# Altium schematic symbol library My Schematic Library.SchLib: 45 symbols
Pins are listed as number, name and electrical type; pins without a type are passive.

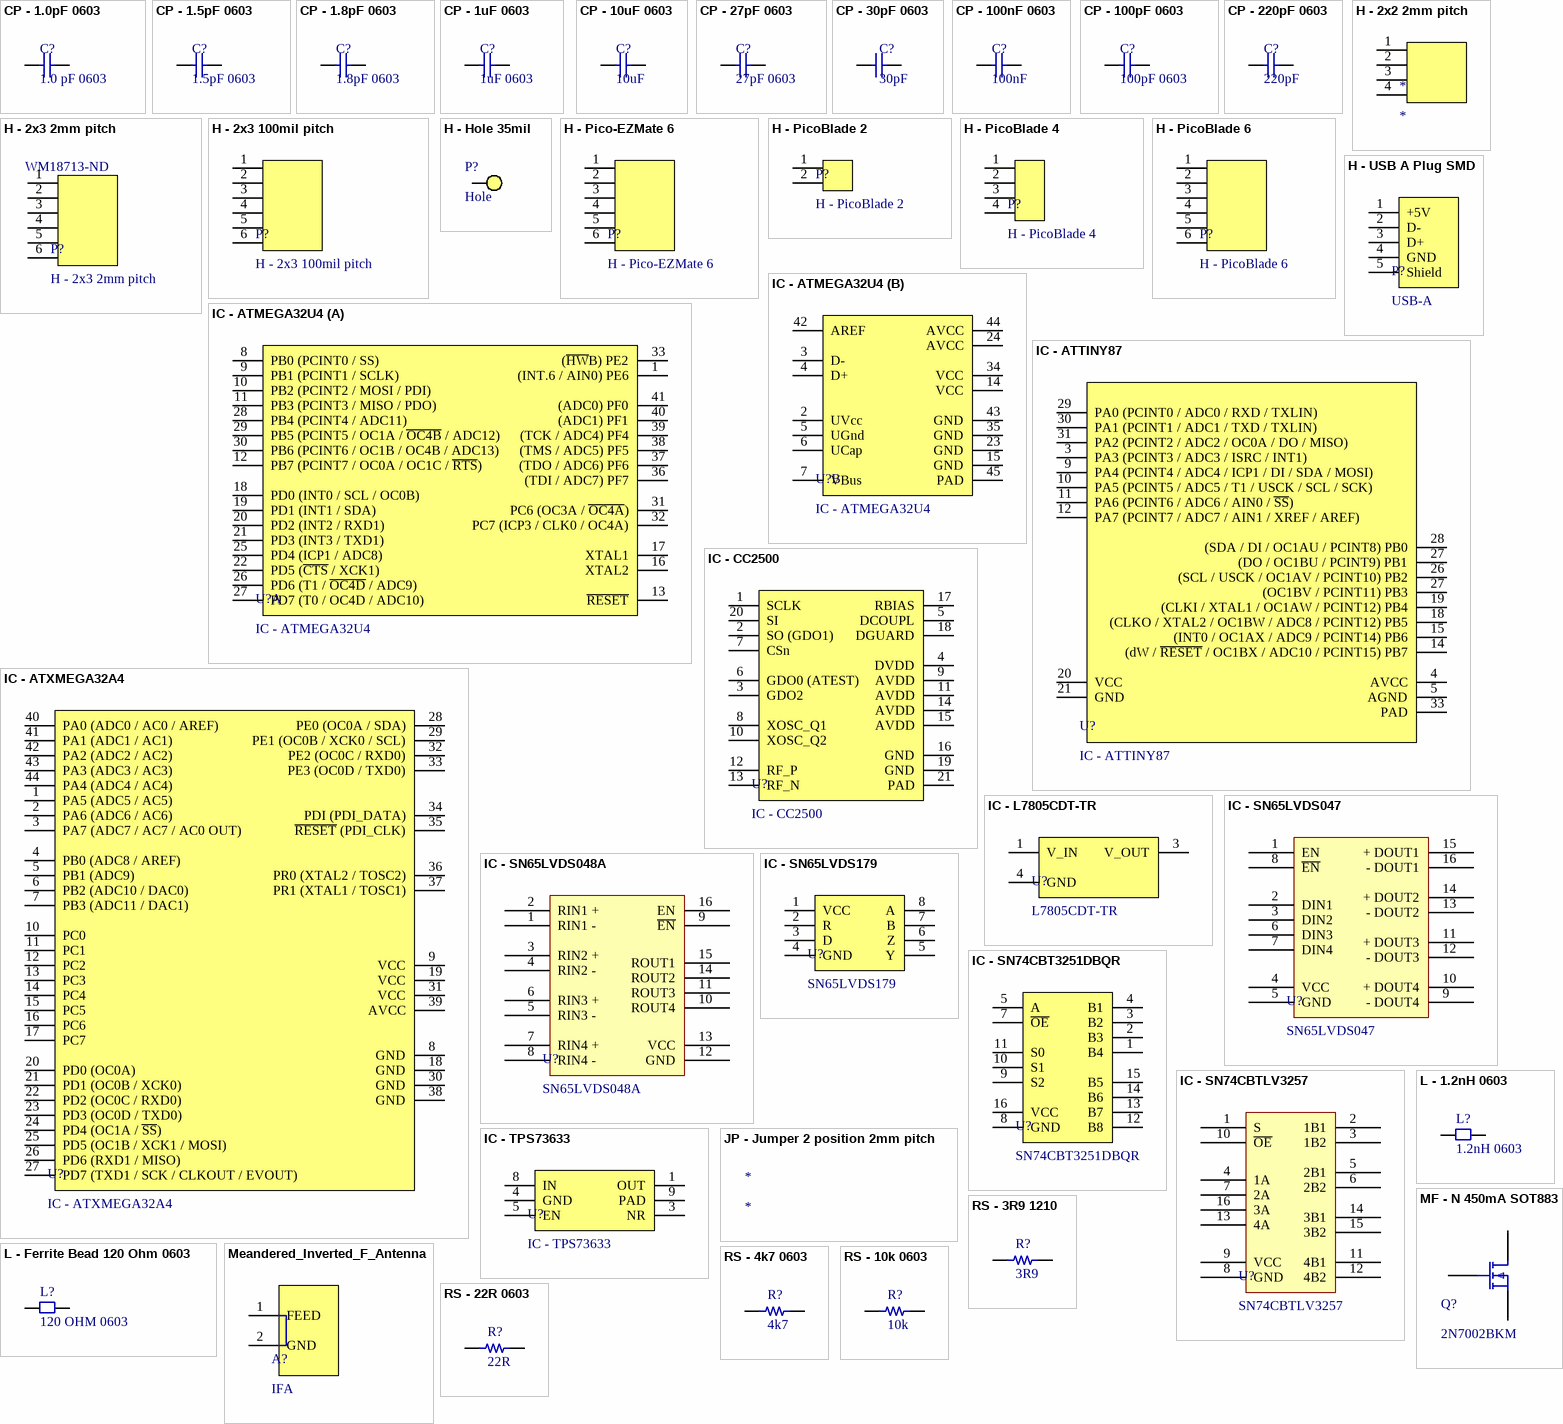
[diagram p0: symbols CP - 1.0pF 0603 to RS - 22R 0603]

## CP - 1.0pF 0603
designator C?, comment 1.0 pF 0603
CAP CER 1.0PF 50V C0G 0603; Manufacturer: TDK Corporation; Manufacturer Part Number: C1608C0G1H010C; Tolerance: ±0.25pF; Temperature Coefficient: C0G, NP0; Supplier 1: Digi-Key; RoHS: RoHS Compliant; Category: Capacitors; Stock 1: 89185; Pricing 1: 1=0.09, 10=0.058, 100=0.0207, 250=0.01496, 500=0.01104, 1000=0.00748 (USD); Capacitance: 1.0pF; Voltage - Rated: 50V; Mounting Type: Surface Mount, MLCC; Operating Temperature: -55°C ~ 125°C; Applications: General Purpose; Ratings: -; Package / Case: 0603 (1608 Metric); Size / Dimension: 0.063" L x 0.031" W (1.60mm x 0.80mm); Height: -; Thickness: 0.037" (0.95mm); Lead Spacing: -; Features: -; Packaging: Cut Tape (CT); Lead Style: -; ComponentLink1URL: http://www.tdk.com/pdf/general_B11.pdf; ComponentLink1Description: http://www.tdk.com/pdf/general_B11.pdf; Supplier Part Number 1: 445-5009-1-ND
footprint 0603 (Non polarized 0603 footprint)
pins: 1, 2

## CP - 1.5pF 0603
designator C?, comment 1.5pF 0603
CAP CER 1.5PF 50V C0G 0603; Manufacturer: TDK Corporation; Manufacturer Part Number: C1608C0G1H1R5C; Tolerance: ±0.25pF; Temperature Coefficient: C0G, NP0; Supplier 1: Digi-Key; RoHS: RoHS Compliant; Category: Capacitors; Stock 1: 31690; Pricing 1: 1=0.09, 10=0.058, 100=0.0207, 250=0.01496, 500=0.01104, 1000=0.00748 (USD); Capacitance: 1.5pF; Voltage - Rated: 50V; Mounting Type: Surface Mount, MLCC; Operating Temperature: -55°C ~ 125°C; Applications: General Purpose; Ratings: -; Package / Case: 0603 (1608 Metric); Size / Dimension: 0.063" L x 0.031" W (1.60mm x 0.80mm); Height: -; Thickness: 0.037" (0.95mm); Lead Spacing: -; Features: -; Packaging: Cut Tape (CT); Lead Style: -; ComponentLink1URL: http://www.tdk.com/pdf/general_B11.pdf; ComponentLink1Description: http://www.tdk.com/pdf/general_B11.pdf; Supplier Part Number 1: 445-5013-1-ND
footprint 0603 (Non polarized 0603 footprint)
pins: 1, 2

## CP - 1.8pF 0603
designator C?, comment 1.8pF 0603
CAP CER 1.8PF 50V C0G 0603; Manufacturer: TDK Corporation; Manufacturer Part Number: C1608C0G1H1R8C; Tolerance: ±0.25pF; Temperature Coefficient: C0G, NP0; Supplier 1: Digi-Key; RoHS: RoHS Compliant; Category: Capacitors; Stock 1: 2092; Pricing 1: 1=0.12, 10=0.075, 100=0.027, 250=0.01952, 500=0.0144, 1000=0.00975 (USD); Capacitance: 1.8pF; Voltage - Rated: 50V; Mounting Type: Surface Mount, MLCC; Operating Temperature: -55°C ~ 125°C; Applications: General Purpose; Ratings: -; Package / Case: 0603 (1608 Metric); Size / Dimension: 0.063" L x 0.031" W (1.60mm x 0.80mm); Height: -; Thickness: 0.037" (0.95mm); Lead Spacing: -; Features: -; Packaging: Cut Tape (CT); Lead Style: -; ComponentLink1URL: http://www.tdk.com/pdf/general_B11.pdf; ComponentLink1Description: http://www.tdk.com/pdf/general_B11.pdf; Supplier Part Number 1: 445-5015-1-ND
footprint 0603 (Non polarized 0603 footprint)
pins: 1, 2

## CP - 1uF 0603
designator C?, comment 1uF 0603
CAP CER 1.0UF 50V X5S 0603; Manufacturer: Taiyo Yuden; Manufacturer Part Number: UMK107C5105KA-T; Capacitance: 1.0µF; Tolerance: ±10%; Supplier 1: Digi-Key; RoHS: RoHS Compliant; Category: Capacitors; Stock 1: 0; Voltage - Rated: 50V; Temperature Coefficient: X5S; Mounting Type: Surface Mount, MLCC; Operating Temperature: -55°C ~ 85°C; Applications: General Purpose; Ratings: -; Package / Case: 0603 (1608 Metric); Size / Dimension: 0.063" L x 0.031" W (1.60mm x 0.80mm); Height: -; Thickness: 0.035" (0.90mm); Lead Spacing: -; Features: -; Packaging: Cut Tape (CT); Lead Style: -; ComponentLink1URL: http://media.digikey.com/pdf/Data%20Sheets/Taiyo%20Yuden%20PDFs%20URL%20links/High%20Value%20Multilayer%20Ceramic%20Caps.pdf; ComponentLink1Description: http://media.digikey.com/pdf/Data%20Sheets/Taiyo%20Yuden%20PDFs%20URL%20links/High%20Value%20Multilayer%20Ceramic%20Caps.pdf; Supplier Part Number 1: 587-1257-1-ND
footprint 0603 (Non polarized 0603 footprint)
pins: 1, 2

## CP - 10uF 0603
designator C?, comment 10uF
CAP CER 10000PF 50V X7R 0603; Manufacturer: TDK Corporation; Manufacturer Part Number: C1608X7R1H103M; Tolerance: ±20%; Supplier 1: Digi-Key; RoHS: RoHS Compliant; Category: Capacitors; Stock 1: 7957; Pricing 1: 1=0.08, 10=0.05, 100=0.018, 250=0.013, 500=0.0096, 1000=0.0065 (USD); Capacitance: 10000pF; Voltage - Rated: 50V; Temperature Coefficient: X7R; Mounting Type: Surface Mount, MLCC; Operating Temperature: -55°C ~ 125°C; Applications: General Purpose; Ratings: -; Package / Case: 0603 (1608 Metric); Size / Dimension: 0.063" L x 0.031" W (1.60mm x 0.80mm); Height: -; Thickness: 0.037" (0.95mm); Lead Spacing: -; Features: -; Packaging: Cut Tape (CT); Lead Style: -; ComponentLink1URL: http://www.tdk.com/pdf/general_B11.pdf; ComponentLink1Description: http://www.tdk.com/pdf/general_B11.pdf; Supplier Part Number 1: 445-5090-1-ND
footprint 0603 (Non polarized 0603 footprint)
pins: 1, 2

## CP - 27pF 0603
designator C?, comment 27pF 0603
CAP CER 27PF 50V 5% C0G 0603; Manufacturer: Murata Electronics North America; Manufacturer Part Number: GRM1885C1H270JA01D; Temperature Coefficient: C0G, NP0; Supplier 1: Digi-Key; RoHS: RoHS Compliant; Category: Capacitors; Stock 1: 272820; Pricing 1: 10=0.055, 50=0.044, 100=0.033, 250=0.02384, 500=0.01762, 1000=0.01193 (USD); Capacitance: 27pF; Voltage - Rated: 50V; Tolerance: ±5%; Mounting Type: Surface Mount, MLCC; Operating Temperature: -55°C ~ 125°C; Applications: General Purpose; Ratings: -; Package / Case: 0603 (1608 Metric); Size / Dimension: 0.063" L x 0.031" W (1.60mm x 0.80mm); Height: -; Thickness: 0.035" (0.90mm); Lead Spacing: -; Features: -; Packaging: Cut Tape (CT); Lead Style: -; ComponentLink1URL: http://search.murata.co.jp/Ceramy/image/img/PDF/ENG/GRM1885C1H270JA01.pdf; ComponentLink1Description: http://search.murata.co.jp/Ceramy/image/img/PDF/ENG/GRM1885C1H270JA01.pdf; Supplier Part Number 1: 490-1413-1-ND
footprint 0603 (Non polarized 0603 footprint)
pins: 1, 2

## CP - 30pF 0603
designator C?, comment 30pF
CAP CER 30PF 50V C0G 0603; Manufacturer: TDK Corporation; Manufacturer Part Number: C1608C0G1H300J; Tolerance: ±5%; Temperature Coefficient: C0G, NP0; Supplier 1: Digi-Key; RoHS: RoHS Compliant; Category: Capacitors; Stock 1: 25238; Pricing 1: 1=0.13, 10=0.083, 100=0.0297, 250=0.02144, 500=0.01584, 1000=0.01073 (USD); Capacitance: 30pF; Voltage - Rated: 50V; Mounting Type: Surface Mount, MLCC; Operating Temperature: -55°C ~ 125°C; Applications: General Purpose; Ratings: -; Package / Case: 0603 (1608 Metric); Size / Dimension: 0.063" L x 0.031" W (1.60mm x 0.80mm); Height: -; Thickness: 0.037" (0.95mm); Lead Spacing: -; Features: -; Packaging: Cut Tape (CT); Lead Style: -; ComponentLink1URL: http://www.tdk.com/pdf/general_B11.pdf; ComponentLink1Description: http://www.tdk.com/pdf/general_B11.pdf; Supplier Part Number 1: 445-5054-1-ND
footprint 0603 (0603 (1608 Metric))
pins: 1, 2

## CP - 100nF 0603
designator C?, comment 100nF
CAP CER .10UF 50V X5R 0603; Manufacturer: AVX Corporation; Manufacturer Part Number: 06035D104KAT2A; Capacitance: 0.1µF; Tolerance: ±10%; Supplier 1: Digi-Key; RoHS: RoHS Compliant; Category: Capacitors; Stock 1: 0; Pricing 1: 10=0.33, 100=0.195, 500=0.1125, 1000=0.078 (USD); Voltage - Rated: 50V; Temperature Coefficient: X5R; Mounting Type: Surface Mount, MLCC; Operating Temperature: -55°C ~ 85°C; Applications: General Purpose; Ratings: -; Package / Case: 0603 (1608 Metric); Size / Dimension: 0.063" L x 0.032" W (1.60mm x 0.81mm); Height: -; Thickness: 0.035" (0.90mm); Lead Spacing: -; Features: -; Packaging: Cut Tape (CT); Lead Style: -; ComponentLink1URL: http://www.avx.com/docs/Catalogs/cx5r.pdf; ComponentLink1Description: http://www.avx.com/docs/Catalogs/cx5r.pdf; Supplier Part Number 1: 478-6206-1-ND
footprint 0603 (Non polarized 0603 footprint)
pins: 1, 2

## CP - 100pF 0603
designator C?, comment 100pF 0603
CAP CERM 100PF 5% 50V NP0 0603; Manufacturer: AVX Corporation; Manufacturer Part Number: 06035A101JAT2A; Temperature Coefficient: C0G, NP0; Supplier 1: Digi-Key; RoHS: RoHS Compliant; Category: Capacitors; Stock 1: 1724543; Pricing 1: 10=0.028, 100=0.0163, 500=0.00938, 1000=0.0065 (USD); Capacitance: 100pF; Voltage - Rated: 50V; Tolerance: ±5%; Mounting Type: Surface Mount, MLCC; Operating Temperature: -55°C ~ 125°C; Applications: General Purpose; Ratings: -; Package / Case: 0603 (1608 Metric); Size / Dimension: 0.063" L x 0.032" W (1.60mm x 0.81mm); Height: -; Thickness: 0.035" (0.90mm); Lead Spacing: -; Features: -; Packaging: Cut Tape (CT); Lead Style: -; ComponentLink1URL: http://www.avx.com/docs/Catalogs/ccog.pdf; ComponentLink1Description: http://www.avx.com/docs/Catalogs/ccog.pdf; Supplier Part Number 1: 478-1175-1-ND
footprint 0603 (Non polarized 0603 footprint)
pins: 1, 2

## CP - 220pF 0603
designator C?, comment 220pF
CAP CER 220PF 50V NP0 0603; Manufacturer: Johanson Dielectrics Inc; Manufacturer Part Number: 500R14N221JV4T; Tolerance: ±5%; Temperature Coefficient: C0G, NP0; Supplier 1: Digi-Key; RoHS: RoHS Compliant; Category: Capacitors; Stock 1: 21369; Pricing 1: 10=0.047, 100=0.028, 500=0.01612, 1000=0.01118 (USD); Capacitance: 220pF; Voltage - Rated: 50V; Mounting Type: Surface Mount, MLCC; Operating Temperature: -55°C ~ 125°C; Applications: General Purpose; Ratings: -; Package / Case: 0603 (1608 Metric); Size / Dimension: 0.063" L x 0.032" W (1.60mm x 0.81mm); Height: -; Thickness: 0.035" (0.89mm); Lead Spacing: -; Features: -; Packaging: Cut Tape (CT); Lead Style: -; ComponentLink1URL: http://www.johansondielectrics.com/images/stories/surface-mount/smt-mlc/JDI_Surface-Mount_2008-11.pdf; ComponentLink1Description: http://www.johansondielectrics.com/images/stories/surface-mount/smt-mlc/JDI_Surface-Mount_2008-11.pdf; Supplier Part Number 1: 709-1148-1-ND
footprint 0603 (Non polarized 0603 footprint)
pins: 1, 2

## H - 2x2 2mm pitch
designator *
Supplier 1: Digi-Key; Supplier Part Number 1: WM18712-ND
pins: 1, 2, 3, 4

## H - 2x3 2mm pitch
designator P?  Supplier Part Number 1: WM18713-ND
CONN HEADER 6POS DL 2MM VERT SMD; Manufacturer: Molex Connector Corporation; Manufacturer Part Number: 87759-0614; Connector Type: Header, Unshrouded; Number of Positions: 6; Number of Positions Loaded: All; Pitch: 0.079" (2.00mm); RoHS: RoHS Compliant; Category: Connectors, Interconnects; Contact Type: Male Pin; Number of Rows: 2; Row Spacing: 0.079" (2.00mm); Contact Mating Length: 0.150" (3.81mm); Mounting Type: Surface Mount; Termination: Solder; Fastening Type: -; Features: -; Contact Finish: Gold; Contact Finish Thickness: 15µin (0.38µm); Color: Black; Packaging: Tube; ComponentLink1URL: http://www.molex.com/pdm_docs/sd/877590614_sd.pdf; ComponentLink1Description: http://www.molex.com/pdm_docs/sd/877590614_sd.pdf; Supplier 1: Digi-Key
pins: 1, 2, 3, 4, 5, 6

## H - 2x3 100mil pitch
designator P?
CONN HEADER 6POS DUAL VERT PCB; Manufacturer: FCI; Manufacturer Part Number: 75869-131LF; Connector Type: Header, Shrouded; Number of Positions: 6; Number of Positions Loaded: All; Pitch: 0.100" (2.54mm); RoHS: RoHS Compliant; Category: Connectors, Interconnects; Contact Type: Male Pin; Number of Rows: 2; Row Spacing: 0.100" (2.54mm); Contact Mating Length: 0.236" (6.00mm); Mounting Type: Through Hole; Termination: Solder; Fastening Type: -; Features: -; Contact Finish: Gold, GXT™; Contact Finish Thickness: 30µin (0.76µm); Color: Blue; Packaging: Tube; ComponentLink1URL: http://portal.fciconnect.com/res/en/pdffiles/doc_search/75869.pdf; ComponentLink1Description: http://portal.fciconnect.com/res/en/pdffiles/doc_search/75869.pdf; Supplier 1: Digi-Key; Supplier Part Number 1: 609-2845-ND
footprint 75869-131LF
pins: 1, 2, 3, 4, 5, 6

## H - Hole 35mil
designator P?, comment Hole
A hole to solder a wire to.
footprint Hole (A hole to solder a wire to.)
pins: 1

## H - Pico-EZMate 6
designator P?
CONN HEADER 6POS 1.20MM R/A SMD; Supplier 1: Digi-Key; Supplier Part Number 1: WM5408CT-ND
footprint Molex - 78171-6006 (CONN HEADER 6POS 1.20MM R/A SMD)
pins: 1, 2, 3, 4, 5, 6

## H - PicoBlade 2
designator P?
CONN HEADER 2POS 1.25MM R/A SMD; Manufacturer: Molex Inc; Manufacturer Part Number: 53261-0271; Connector Type: Header, Male Blades; Number of Positions: 2; Pitch: 0.049" (1.25mm); RoHS: RoHS Compliant; Category: Connectors, Interconnects; Connector Style: -; Mounting Type: Surface Mount, Right Angle; Termination: Solder; Wire Gauge: -; Features: -; Color: Natural; Packaging: Cut Tape (CT); ComponentLink1URL: http://www.molex.com/pdm_docs/sd/532610271_sd.pdf; ComponentLink1Description: http://www.molex.com/pdm_docs/sd/532610271_sd.pdf; Supplier 1: Digi-Key; Supplier Part Number 1: WM7620CT-ND
footprint Molex - 53261-0271 (CONN HEADER 2POS 1.25MM R/A SMD)
pins: 1, 2

## H - PicoBlade 4
designator P?
CONN HEADER 4POS 1.25MM R/A SMD; Manufacturer: Molex Inc; Manufacturer Part Number: 53261-0471; Connector Type: Header, Male Blades; Number of Positions: 4; Pitch: 0.049" (1.25mm); Supplier 1: Digi-Key; RoHS: RoHS Compliant; Category: Connectors, Interconnects; Stock 1: 12340; Pricing 1: 1=1.89, 10=1.468, 50=1.2424, 100=1.1205, 250=0.94428, 500=0.89456 (USD); Connector Style: -; Mounting Type: Surface Mount, Right Angle; Termination: Solder; Wire Gauge: -; Features: -; Color: Natural; Packaging: Cut Tape (CT); ComponentLink1URL: http://www.molex.com/pdm_docs/sd/532610471_sd.pdf; ComponentLink1Description: http://www.molex.com/pdm_docs/sd/532610471_sd.pdf; Supplier Part Number 1: WM7622CT-ND
footprint Molex - 53261-0471 (CONN HEADER 4POS 1.25MM R/A SMD)
pins: 1, 2, 3, 4

## H - PicoBlade 6
designator P?
CONN HEADER 6POS 1.25MM R/A SMD; Manufacturer: Molex Inc; Manufacturer Part Number: 53261-0671; Connector Type: Header, Male Blades; Number of Positions: 6; Pitch: 0.049" (1.25mm); Supplier 1: Digi-Key; RoHS: RoHS Compliant; Category: Connectors, Interconnects; Stock 1: 6997; Pricing 1: 1=1.92, 10=1.589, 50=1.327, 100=1.1772, 250=1.03276, 500=0.94178 (USD); Connector Style: -; Mounting Type: Surface Mount, Right Angle; Termination: Solder; Wire Gauge: -; Features: -; Color: Natural; Packaging: Cut Tape (CT); ComponentLink1URL: http://www.molex.com/pdm_docs/sd/532610671_sd.pdf; ComponentLink1Description: http://www.molex.com/pdm_docs/sd/532610671_sd.pdf; Supplier Part Number 1: WM7624CT-ND
footprint Molex - 53261-0671 (CONN HEADER 6POS 1.25MM R/A SMD)
pins: 1, 2, 3, 4, 5, 6

## H - USB A Plug SMD
designator P?, comment USB-A
CONN PLUG USB A 4POS SMD R/A; Manufacturer: Molex Inc; Manufacturer Part Number: 0480372200; Number of Contacts: 4; Specifications: USB 2.0; Supplier 1: Digi-Key; RoHS: RoHS Compliant; Category: Connectors, Interconnects; Stock 1: 5447; Pricing 1: 1=1.62, 10=1.263, 50=1.0684, 100=0.9635 (USD); Connector Type: USB - A; Gender: Plug; Mounting Type: Surface Mount, Right Angle, Horizontal; Features: Shielded; Packaging: Cut Tape (CT); Ingress Protection: -; ComponentLink1URL: http://www.molex.com/elqNow/elqRedir.htm?ref=http://www.molex.com/pdm_docs/sd/480372200_sd.pdf; ComponentLink1Description: http://www.molex.com/elqNow/elqRedir.htm?ref=http://www.molex.com/pdm_docs/sd/480372200_sd.pdf; Supplier Part Number 1: WM3983CT-ND
footprint 480372200 (CONN PLUG USB A 4POS SMD R/A)
pins: 1 +5V, 2 D-, 3 D+, 4 GND, 5 Shield

## IC - ATMEGA32U4
designator U?
MCU AVR 32K FLASH 16MHZ 44-QFN; Manufacturer: Atmel; Manufacturer Part Number: ATMEGA32U4-MU; Core Size: 8-Bit; Connectivity: I²C, SPI, UART/USART, USB; Peripherals: Brown-out Detect/Reset, POR, PWM, WDT; Number of I /O: 26; Program Memory Size: 32KB (16K x 16); EEPROM Size: 1K x 8; RAM Size: 2.5K x 8; Voltage - Supply (Vcc/Vdd): 2.7 V ~ 5.5 V; Data Converters: A/D 12x10b; Oscillator Type: External; Supplier 1: Digi-Key; RoHS: RoHS Compliant; Category: Integrated Circuits (ICs); Stock 1: 6137; Pricing 1: 1=6.04, 25=3.7896, 100=3.3684 (USD); Core Processor: AVR; Speed: 16MHz; Program Memory Type: FLASH; Operating Temperature: -40°C ~ 85°C; Package / Case: 44-VQFN; Packaging: Tray; ComponentLink1URL: http://www.atmel.com/dyn/resources/prod_documents/doc7766.pdf; ComponentLink1Description: http://www.atmel.com/dyn/resources/prod_documents/doc7766.pdf; Supplier Part Number 1: ATMEGA32U4-MU-ND
footprint QFN50P700X700X90-44N (QFN, 44-Leads, Body 7.0x7.0mm (max), Pitch 0.50mm, IPC Medium Density)
part A pins: 1 (INT.6 / AIN0) PE6, 8 PB0 (PCINT0 / SS), 9 PB1 (PCINT1 / SCLK), 10 PB2 (PCINT2 / MOSI / PDI), 11 PB3 (PCINT3 / MISO / PDO), 12 PB7 (PCINT7 / OC0A / OC1C / ~{RTS}), 13 ~{RESET}, 16 XTAL2, 17 XTAL1, 18 PD0 (INT0 / SCL / OC0B), 19 PD1 (INT1 / SDA), 20 PD2 (INT2 / RXD1), 21 PD3 (INT3 / TXD1), 22 PD5 (~{CTS} / XCK1), 25 PD4 (ICP1 / ADC8), 26 PD6 (T1 / ~{OC4D} / ADC9), 27 PD7 (T0 / OC4D / ADC10), 28 PB4 (PCINT4 / ADC11), 29 PB5 (PCINT5 / OC1A / ~{OC4B} / ADC12), 30 PB6 (PCINT6 / OC1B / OC4B / ADC13), 31 PC6 (OC3A / ~{OC4A}), 32 PC7 (ICP3 / CLK0 / OC4A), 33 (~{HW}B) PE2, 36 (TDI / ADC7) PF7, 37 (TDO / ADC6) PF6, 38 (TMS / ADC5) PF5, 39 (TCK / ADC4) PF4, 40 (ADC1) PF1, 41 (ADC0) PF0
part B pins: 2 UVcc, 3 D-, 4 D+, 5 UGnd, 6 UCap, 7 VBus, 14 VCC, 15 GND, 23 GND, 24 AVCC, 34 VCC, 35 GND, 42 AREF, 43 GND, 44 AVCC, 45 PAD

## IC - ATTINY87
designator U?
MCU AVR 8K FLASH 15MHZ 32QFN; Manufacturer: Atmel; Manufacturer Part Number: ATTINY87-A15MZ; Core Size: 8-Bit; Speed: 16MHz; Connectivity: I²C, LIN, SPI, UART/USART, USI; Peripherals: Brown-out Detect/Reset, POR, PWM, Temp Sensor, WDT; Number of I /O: 16; Program Memory Size: 8KB (4K x 16); EEPROM Size: 512 x 8; Voltage - Supply (Vcc/Vdd): 2.7 V ~ 5.5 V; Data Converters: A/D 11x10b; Oscillator Type: Internal; RoHS: RoHS Compliant; Category: Integrated Circuits (ICs); Core Processor: AVR; Program Memory Type: FLASH; RAM Size: 512 x 8; Operating Temperature: -40°C ~ 125°C; Package / Case: 32-VFQFN Exposed Pad; Packaging: Cut Tape (CT); Supplier 1: Digi-Key; Supplier Part Number 1: ATTINY87-A15MZCT-ND
footprint QFN50P500X500X100-32N (QFN, 32-Leads, Body 4.9x4.9mm (max), Pitch 0.50mm, IPC Medium Density)
pins: 3 PA3 (PCINT3 / ADC3 / ISRC / INT1), 4 AVCC, 5 AGND, 9 PA4 (PCINT4 / ADC4 / ICP1 / DI / SDA / MOSI), 10 PA5 (PCINT5 / ADC5 / T1 / USCK / SCL / SCK), 11 PA6 (PCINT6 / ADC6 / AIN0 / ~{SS}), 12 PA7 (PCINT7 / ADC7 / AIN1 / XREF / AREF), 14 (dW / ~{RESET} / OC1BX / ADC10 / PCINT15) PB7, 15 (INT0 / OC1AX / ADC9 / PCINT14) PB6, 18 (CLKO / XTAL2 / OC1BW / ADC8 / PCINT12) PB5, 19 (CLKI / XTAL1 / OC1AW / PCINT12) PB4, 20 VCC, 21 GND, 26 (SCL / USCK / OC1AV / PCINT10) PB2, 27 (DO / OC1BU / PCINT9) PB1, 27 (OC1BV / PCINT11) PB3, 28 (SDA / DI / OC1AU / PCINT8) PB0, 29 PA0 (PCINT0 / ADC0 / RXD / TXLIN), 30 PA1 (PCINT1 / ADC1 / TXD / TXLIN), 31 PA2 (PCINT2 / ADC2 / OC0A / DO / MISO), 33 PAD

## IC - ATXMEGA32A4
designator U?
MCU AVR 32K FLASH 1.6V 44-QFN; Manufacturer: Atmel; Manufacturer Part Number: ATXMEGA32A4-MH; Core Size: 8/16-Bit; Speed: 32MHz; Connectivity: I²C, IrDA, SPI, UART/USART; Peripherals: Brown-out Detect/Reset, DMA, POR, PWM, WDT; Number of I /O: 34; Program Memory Size: 32KB (16K x 16); EEPROM Size: 2K x 8; RAM Size: 4K x 8; Voltage - Supply (Vcc/Vdd): 1.6 V ~ 3.6 V; Data Converters: A/D 12x12b, D/A 2x12b; Oscillator Type: Internal; Supplier 1: Digi-Key; RoHS: RoHS Compliant; Category: Integrated Circuits (ICs); Stock 1: 8846; Pricing 1: 1=5.88, 25=3.6908, 100=3.2808 (USD); Core Processor: AVR; Program Memory Type: FLASH; Operating Temperature: -40°C ~ 85°C; Package / Case: 44-VFQFN Exposed Pad; Packaging: Tray; ComponentLink1URL: http://www.atmel.com/dyn/resources/prod_documents/doc8069.pdf; ComponentLink1Description: http://www.atmel.com/dyn/resources/prod_documents/doc8069.pdf; Supplier Part Number 1: ATXMEGA32A4-MH-ND
footprint QFN50P700X700X100-44N (QFN, 44-Leads, Body 7.1x7.1mm (max), Pitch 0.50mm, IPC Medium Density)
pins: 1 PA5 (ADC5 / AC5), 2 PA6 (ADC6 / AC6), 3 PA7 (ADC7 / AC7 / AC0 OUT), 4 PB0 (ADC8 / AREF), 5 PB1 (ADC9), 6 PB2 (ADC10 / DAC0), 7 PB3 (ADC11 / DAC1), 8 GND, 9 VCC, 10 PC0 "TCC0-OC0A / AWEXEC-OC0ALS / TWIC-SDA", 11 PC1 "TCC0-OC0B / AWEXEC-OC0AHS / USARTC0-XCK0 / TWIC-SCL", 12 PC2 "TCC0-OC0C / AWEXEC-OC0BLS / USARTC0-RXD0", 13 PC3 "TCC0-OC0D / AWEXEC-OC0BHS / USARTC0-TXD0", 14 PC4 "TCC1-OC1A / AWEXEC-OC0CLS / SPI-S\S\", 15 PC5 "TCC1-OC1B / AWEXEC-OC0CHS / USARTC1-XCK1 / SPI-MOSI", 16 PC6 "AWEXEC-OC0DLS / USARTC1-RXD1 / SPI-MISO", 17 PC7 "AWEXEC-OC0DHS / USARTC1-TXD1 / SPI-SCK / CLKOUT / EVOUT", 18 GND, 19 VCC, 20 PD0 (OC0A), 21 PD1 (OC0B / XCK0), 22 PD2 (OC0C / RXD0), 23 PD3 (OC0D / TXD0), 24 PD4 (OC1A / ~{SS}), 25 PD5 (OC1B / XCK1 / MOSI), 26 PD6 (RXD1 / MISO), 27 PD7 (TXD1 / SCK / CLKOUT / EVOUT), 28 PE0 (OC0A / SDA), 29 PE1 (OC0B / XCK0 / SCL), 30 GND, 31 VCC, 32 PE2 (OC0C / RXD0), 33 PE3 (OC0D / TXD0), 34 PDI (PDI_DATA), 35 ~{RESET} (PDI_CLK), 36 PR0 (XTAL2 / TOSC2), 37 PR1 (XTAL1 / TOSC1), 38 GND, 39 AVCC, 40 PA0 (ADC0 / AC0 / AREF), 41 PA1 (ADC1 / AC1), 42 PA2 (ADC2 / AC2), 43 PA3 (ADC3 / AC3), 44 PA4 (ADC4 / AC4)

## IC - CC2500
designator U?
IC RF TXRX SNGL-CHIP LP 20-QFN; Manufacturer: Texas Instruments; Manufacturer Part Number: CC2500RTKR; Frequency: 2.4GHz; Data Rate - Maximum: 500kBaud; Modulation or Protocol: 2-FSK, ASK, GFSK, MSK, OOK; Power - Output: -30dBm ~ 10dBm; Sensitivity: -104dBm; Voltage - Supply: 1.8 V ~ 3.6 V; Current - Receiving: 17mA; Current - Transmitting: 21.5mA @ 1 dBm; Data Interface: PCB, Surface Mount; Supplier 1: Digi-Key; RoHS: RoHS Compliant; Category: RF/IF and RFID; Stock 1: 20005; Pricing 1: 1=4.2, 25=3.43, 100=3.08, 250=2.8, 500=2.45, 1000=2.1 (USD); Applications: ISM, SRD; Memory Size: -; Antenna Connector: PCB, Surface Mount; Operating Temperature: -40°C ~ 85°C; Package / Case: 20-VQFN Exposed Pad, 20-HVQFN, 20-SQFN, 20-DHVQFN; Packaging: Cut Tape (CT); ComponentLink1URL: http://focus.ti.com/lit/ds/symlink/cc2500.pdf; ComponentLink1Description: http://focus.ti.com/lit/ds/symlink/cc2500.pdf; Supplier Part Number 1: 296-19586-1-ND
footprint TI - RTK / QFN50P400X400X90-20N (QFN, 20-Leads, Body 4.1x4.1mm (max), Pitch 0.50mm, IPC Medium Density)
pins: 1 SCLK, 2 SO (GDO1), 3 GDO2, 4 DVDD, 5 DCOUPL, 6 GDO0 (ATEST), 7 CSn, 8 XOSC_Q1, 9 AVDD, 10 XOSC_Q2, 11 AVDD, 12 RF_P, 13 RF_N, 14 AVDD, 15 AVDD, 16 GND, 17 RBIAS, 18 DGUARD, 19 GND, 20 SI, 21 PAD

## IC - L7805CDT-TR
designator U?, comment L7805CDT-TR
IC REG POS 1.5A 5V PREC DPAK; Manufacturer: STMicroelectronics; Regulator Topology: Positive Fixed; Voltage - Input: Up to 35V; Voltage - Dropout (Typical): 2V @ 1A; Number of Regulators: 1; Supplier 1: Digi-Key; Manufacturer Part Number: L7805CDT-TR; RoHS: RoHS Compliant; Category: Integrated Circuits (ICs); Stock 1: 149311; Pricing 1: 1=0.91, 10=0.783, 100=0.618, 250=0.5356, 500=0.4532, 1000=0.3605 (USD); Voltage - Output: 5V; Current - Output: 1.5A; Current - Limit (Min): -; Operating Temperature: 0°C ~ 125°C; Mounting Type: Surface Mount; Package / Case: TO-252-3, DPak (2 Leads + Tab), SC-63; Supplier Device Package: D-Pak; Packaging: Cut Tape (CT); ComponentLink1URL: http://www.st.com/internet/com/TECHNICAL_RESOURCES/TECHNICAL_LITERATURE/DATASHEET/CD00000444.pdf; ComponentLink1Description: http://www.st.com/internet/com/TECHNICAL_RESOURCES/TECHNICAL_LITERATURE/DATASHEET/CD00000444.pdf; Supplier Part Number 1: 497-7255-1-ND
footprint TO228P973X240-3N (D-PAK, 3-Pads, Body 6.2x6.6mm (max), IPC Medium Density)
pins: 1 V_IN, 3 V_OUT, 4 GND

## IC - SN65LVDS047
designator U?, comment SN65LVDS047
IC LVDS QUAD LINE DRIVER; Supplier 1: Digi-Key; Supplier Part Number 1: 296-6910-5-ND
footprint TI - PW / TSOP65P640X120-16N (TSOP, 16-Leads, Body 5.1x4.5mm (max), Pitch 0.65mm, IPC Medium Density)
pins: 1 EN, 2 DIN1, 3 DIN2, 4 VCC, 5 GND, 6 DIN3, 7 DIN4, 8 ~{EN}, 9 - DOUT4, 10 + DOUT4, 11 + DOUT3, 12 - DOUT3, 13 - DOUT2, 14 + DOUT2, 15 + DOUT1, 16 - DOUT1

## IC - SN65LVDS048A
designator U?, comment SN65LVDS048A
LVDS QUAD DIFFERENTIAL LINE RECEIVER; Supplier 1: Digi-Key; Supplier Part Number 1: 296-6912-5-ND
footprint TI - PW / TSOP65P640X120-16N (TSOP, 16-Leads, Body 5.1x4.5mm (max), Pitch 0.65mm, IPC Medium Density)
pins: 1 RIN1 -, 2 RIN1 +, 3 RIN2 +, 4 RIN2 -, 5 RIN3 -, 6 RIN3 +, 7 RIN4 +, 8 RIN4 -, 9 ~{EN}, 10 ROUT4, 11 ROUT3, 12 GND, 13 VCC, 14 ROUT2, 15 ROUT1, 16 EN

## IC - SN65LVDS179
designator U?, comment SN65LVDS179
High-Speed Differential Line Driver and Receiver; Manufacturer: Texas Instruments; Manufacturer Part Number: SN65LVDS179DGK; Description: IC HS DIFF LINE DRVR/RCVR 8-MSOP; Number of Drivers/Receivers: 1/1; Protocol: LVDS; Voltage - Supply: 3 V ~ 3.6 V; Supplier 1: Digi-Key; RoHS: RoHS Compliant; Category: Integrated Circuits (ICs); Stock 1: 1279; Pricing 1: 1=3.53, 25=2.8352, 100=2.583, 250=2.331, 500=2.0916, 1000=1.764, 2500=1.6758, 5000=1.6065, 10000=1.5624 (USD); Type: Transceiver; Mounting Type: Surface Mount; Package / Case: 8-TSSOP, 8-MSOP (0.118", 3.00mm Width); Supplier Device Package: 8-MSOP; Packaging: Tube; ComponentLink1URL: http://focus.ti.com/lit/ds/symlink/sn65lvds050.pdf; ComponentLink1Description: http://focus.ti.com/lit/ds/symlink/sn65lvds050.pdf; Supplier Part Number 1: 296-6918-5-ND
footprint TI - DGK / TSOP65P490X110-8L (TSOP, 8-Leads, Body 3.1x3.1mm (max), Pitch 0.65mm, IPC High Density)
pins: 1 VCC, 2 R, 3 D, 4 GND, 5 Y, 6 Z, 7 B, 8 A

## IC - SN74CBT3251DBQR
designator U?, comment SN74CBT3251DBQR
IC 1-OF-8 FET MUX/DEMUX 16-QSOP; Manufacturer: Texas Instruments; Circuit: 1 x 1:8; Independent Circuits: 1; Current - Output High, Low: 15mA, 64mA; Voltage Supply Source: Single Supply; Voltage - Supply: 4.5 V ~ 5.5 V; Supplier 1: Digi-Key; Manufacturer Part Number: SN74CBT3251DBQR; RoHS: RoHS Compliant; Category: Integrated Circuits (ICs); Stock 1: 9369; Pricing 1: 1=0.87, 25=0.6732, 100=0.594, 250=0.5148, 500=0.4356, 1000=0.3465 (USD); Type: FET Multiplexer/Demux; Operating Temperature: -40°C ~ 85°C; Mounting Type: Surface Mount; Package / Case: 16-SSOP (0.154", 3.90mm Width); Supplier Device Package: 16-SSOP/QSOP; Packaging: Cut Tape (CT); ComponentLink1URL: http://focus.ti.com/lit/ds/symlink/sn74cbt3251.pdf; ComponentLink1Description: http://focus.ti.com/lit/ds/symlink/sn74cbt3251.pdf; Supplier Part Number 1: 296-6429-1-ND
footprint TI - DBQ / SOP63P600X175-16N (SOP, 16-Leads, Body 5.0x4.0mm (max), Pitch 0.63mm, IPC Medium Density)
pins: 1 B4, 2 B3, 3 B2, 4 B1, 5 A, 7 ~{OE}, 8 GND, 9 S2, 10 S1, 11 S0, 12 B8, 13 B7, 14 B6, 15 B5, 16 VCC

## IC - SN74CBTLV3257
designator U?, comment SN74CBTLV3257
Low-Voltage 4-Bit 1-of-2 FET Multiplexer/Demultiplexer; Supplier 1: Digi-Key; Supplier Part Number 1: 296-9136-1-ND
footprint TI - DGV16 / TSSOP40P640X120-16N (TSSOP, 16-Leads, Body 3.7x4.5mm (max), Pitch 0.40mm, IPC Medium Density)
pins: 1 S, 2 1B1, 3 1B2, 4 1A, 5 2B1, 6 2B2, 7 2A, 8 GND, 9 VCC, 10 ~{OE}, 11 4B1, 12 4B2, 13 4A, 14 3B1, 15 3B2, 16 3A

## IC - TPS73633
designator U?
IC LDO REG 400MA NO CAP 8-SON; Manufacturer: Texas Instruments; Manufacturer Part Number: TPS73633DRBR; Regulator Topology: Positive Fixed; Voltage - Output: 3.3V; Voltage - Input: Up to 5.5V; Voltage - Dropout (Typical): 0.075V @ 400mA; Number of Regulators: 1; Current - Output: 400mA (Max); Supplier 1: Digi-Key; RoHS: RoHS Compliant; Category: Integrated Circuits (ICs); Stock 1: 6005; Pricing 1: 1=3.15, 25=2.43, 100=2.205, 250=1.98, 500=1.71, 1000=1.44 (USD); Current - Limit (Min): 400mA; Operating Temperature: -40°C ~ 125°C; Mounting Type: Surface Mount; Package / Case: 8-VDFN Exposed Pad; Supplier Device Package: 8-SON Exposed Pad (3x3); Packaging: Cut Tape (CT); ComponentLink1URL: http://focus.ti.com/lit/ds/symlink/tps73601.pdf; ComponentLink1Description: http://focus.ti.com/lit/ds/symlink/tps73601.pdf; Supplier Part Number 1: 296-17884-1-ND
footprint TI - DRB / QFN65P300X300X100-8L (QFN, 8-Leads, Body 3.2x3.2mm (max), Pitch 0.65mm, IPC High Density)
pins: 1 OUT, 3 NR, 4 GND, 5 EN, 8 IN, 9 PAD

## JP - Jumper 2 position 2mm pitch
designator *
Supplier 1: Digi-Key; Supplier Part Number 1: S9339-ND

## L - 1.2nH 0603
designator L?, comment 1.2nH 0603
INDUCTOR HI FREQ 1.2+/-0.3NH; Manufacturer: Taiyo Yuden; Manufacturer Part Number: HK16081N2S-T; Current: 300mA; Type: Ceramic; Tolerance: ±0.3nH; DC Resistance (DCR): 50 mOhm Max; Q @ Freq: 8 @ 100MHz; Self Resonant Freq: 10GHz; Frequency - Test: 100MHz; Supplier 1: Digi-Key; RoHS: RoHS Compliant; Category: Inductors, Coils, Chokes; Stock 1: 35758; Pricing 1: 1=0.07, 10=0.064, 50=0.06, 100=0.056, 500=0.044, 1000=0.036 (USD); Inductance: 1.2nH; Current - Saturation: -; Current - Temperature Rise: -; Shielding: -; Package / Case: 0603 (1608 Metric); Mounting Type: Surface Mount; Packaging: Cut Tape (CT); Operating Temperature: -40°C ~ 85°C; Material - Core: -; Applications: General Purpose; ComponentLink1URL: http://www.yuden.co.jp/ut/product/pdf/mlci04_e.pdf; ComponentLink1Description: http://www.yuden.co.jp/ut/product/pdf/mlci04_e.pdf; Supplier Part Number 1: 587-1534-1-ND
footprint 0603 (Non polarized 0603 footprint)
pins: 1, 2

## L - Ferrite Bead 120 Ohm 0603
designator L?, comment 120 OHM 0603
FERRITE BEAD 120 OHM 0603; Manufacturer: Taiyo Yuden; Manufacturer Part Number: FBMH1608HL121-T; Impedance @ Frequency: 120 Ohm @ 100MHz; Current Rating: 900mA; DC Resistance (DCR): 130 mOhm Max; Filter Type: Differential Mode - Single; Number of Lines: 1; Supplier 1: Digi-Key; RoHS: RoHS Compliant; Category: Filters; Stock 1: 54571; Pricing 1: 1=0.38, 10=0.285, 50=0.1662, 100=0.133, 250=0.095, 500=0.0646, 1000=0.05225 (USD); Package / Case: 0603 (1608 Metric); Mounting Type: Surface Mount; Packaging: Cut Tape (CT); ComponentLink1URL: http://www.yuden.co.jp/us/product/pdf/chipbeads01_e.pdf; ComponentLink1Description: http://www.yuden.co.jp/us/product/pdf/chipbeads01_e.pdf; Supplier Part Number 1: 587-1731-1-ND
footprint 0603 (Non polarized 0603 footprint)
pins: 1, 2

## Meandered_Inverted_F_Antenna
designator A?, comment IFA
footprint Meandered_Inverted_F_Antenna
pins: 1 FEED, 2 GND

## MF - N 450mA SOT883
designator Q?, comment 2N7002BKM
MOSFET N-CH 60V 450MA SOT883; Manufacturer: NXP Semiconductors; Manufacturer Part Number: 2N7002BKM,315; FET Type: MOSFET N-Channel, Metal Oxide; FET Feature: Logic Level Gate; Rds On (Max) @ Id, Vgs: 1.6 Ohm @ 500mA, 10V; Vgs(th) (Max) @ Id: 2.1V @ 250µA; Gate Charge (Qg) @ Vgs: 0.6nC @ 4.5V; Input Capacitance (Ciss) @ Vds: 50pF @ 10V; Power - Max: 360mW; RoHS: RoHS Compliant; Category: Discrete Semiconductor Products; Drain to Source Voltage (Vdss): 60V; Current - Continuous Drain (Id) @ 25° C: 450mA; Mounting Type: Surface Mount; Package / Case: SC-101, SOT-883; Supplier Device Package: SC-101; Packaging: Cut Tape (CT); ComponentLink1URL: http://www.nxp.com/documents/data_sheet/2N7002BKM.pdf; ComponentLink1Description: http://www.nxp.com/documents/data_sheet/2N7002BKM.pdf; Supplier 1: Digi-Key; Supplier Part Number 1: 568-5976-1-ND
footprint SOT883 / SC-101
pins: 1 G, 2 S, 3 D

## RS - 3R9 1210
designator R?, comment 3R9
RES 3.9 OHM 1/2W 5% 1210 SMD; Manufacturer: Vishay/Dale; Manufacturer Part Number: CRCW12103R90JNEA; Resistance (Ohms): 3.9; Power (Watts): 0.5W, 1/2W; Temperature Coefficient: ±200ppm/°C; Supplier 1: Digi-Key; RoHS: RoHS Compliant; Category: Resistors; Stock 1: 13236; Pricing 1: 10=0.261, 50=0.1406, 200=0.08075, 1000=0.0551 (USD); Composition: Thick Film; Features: -; Tolerance: ±5%; Size / Dimension: 0.126" L x 0.098" W (3.20mm x 2.50mm); Height: 0.024" (0.60mm); Number of Terminations: 2; Packaging: Cut Tape (CT); Package / Case: 1210 (3225 Metric); ComponentLink1URL: http://www.vishay.com/doc?20035; ComponentLink1Description: http://www.vishay.com/doc?20035; Supplier Part Number 1: 541-3.9VCT-ND
footprint 1210
pins: 1, 2

## RS - 4k7 0603
designator R?, comment 4k7
RES 4.70K OHM 1/10W 1% 0603 SMD; Manufacturer: Rohm Semiconductor; Manufacturer Part Number: MCR03EZPFX4701; Resistance (Ohms): 4.7K; Power (Watts): 0.1W, 1/10W; Temperature Coefficient: ±100ppm/°C; Supplier 1: Digi-Key; RoHS: RoHS Compliant; Category: Resistors; Stock 1: 384429; Pricing 1: 10=0.023, 50=0.0172, 100=0.0131, 250=0.00976, 500=0.0072, 1000=0.0048 (USD); Composition: Thick Film; Features: -; Tolerance: ±1%; Size / Dimension: 0.063" L x 0.031" W (1.60mm x 0.80mm); Height: 0.022" (0.55mm); Number of Terminations: 2; Packaging: Cut Tape (CT); Package / Case: 0603 (1608 Metric); ComponentLink1URL: http://www.rohm.com/products/databook/r/pdf/mcr03.pdf; ComponentLink1Description: http://www.rohm.com/products/databook/r/pdf/mcr03.pdf; Supplier Part Number 1: RHM4.70KHCT-ND
footprint 0603 (Non polarized 0603 footprint)
pins: 1, 2

## RS - 10k 0603
designator R?, comment 10k
RES 10.0K OHM 1/10W 1% 0603 SMD; Manufacturer: Yageo; Manufacturer Part Number: RC0603FR-0710KL; Power (Watts): 0.1W, 1/10W; Temperature Coefficient: ±100ppm/°C; Supplier 1: Digi-Key; RoHS: RoHS Compliant; Category: Resistors; Stock 1: 9813840; Pricing 1: 10=0.014, 50=0.0104, 100=0.0079, 250=0.00584, 500=0.00432, 1000=0.00288 (USD); Resistance (Ohms): 10K; Composition: Thick Film; Features: -; Tolerance: ±1%; Size / Dimension: 0.063" L x 0.031" W (1.60mm x 0.80mm); Height: 0.022" (0.55mm); Number of Terminations: 2; Packaging: Cut Tape (CT); Package / Case: 0603 (1608 Metric); ComponentLink1URL: http://www.yageo.com/documents/recent/PYu-RC0603_51_RoHS_L_4.pdf; ComponentLink1Description: http://www.yageo.com/documents/recent/PYu-RC0603_51_RoHS_L_4.pdf; Supplier Part Number 1: 311-10.0KHRCT-ND
footprint 0603 (Non polarized 0603 footprint)
pins: 1, 2

## RS - 22R 0603
designator R?, comment 22R
RES 22 OHM 1/10W 5% 0603 SMD; Manufacturer: Yageo; Manufacturer Part Number: RC0603JR-0722RL; Resistance (Ohms): 22; Power (Watts): 0.1W, 1/10W; Temperature Coefficient: ±100ppm/°C; Supplier 1: Digi-Key; RoHS: RoHS Compliant; Category: Resistors; Stock 1: 124; Pricing 1: 10=0.01, 50=0.008, 100=0.006, 250=0.00448, 500=0.00332, 1000=0.00221 (USD); Composition: Thick Film; Features: -; Tolerance: ±5%; Size / Dimension: 0.063" L x 0.031" W (1.60mm x 0.80mm); Height: 0.022" (0.55mm); Number of Terminations: 2; Packaging: Cut Tape (CT); Package / Case: 0603 (1608 Metric); ComponentLink1URL: http://www.yageo.com/documents/recent/PYu-RC0603_51_RoHS_L_4.pdf; ComponentLink1Description: http://www.yageo.com/documents/recent/PYu-RC0603_51_RoHS_L_4.pdf; Supplier Part Number 1: 311-22GRCT-ND
footprint 0603 (Non polarized 0603 footprint)
pins: 1, 2

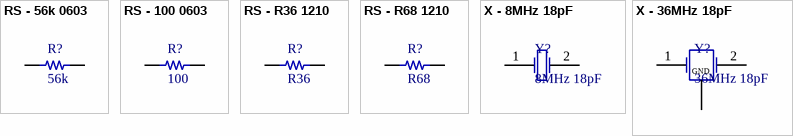
[diagram p1: symbols RS - 56k 0603 to X - 36MHz 18pF]

## RS - 56k 0603
designator R?, comment 56k
RES 56K OHM 1/10W 5% 0603 SMD; Manufacturer: Yageo; Manufacturer Part Number: RC0603JR-0756KL; Power (Watts): 0.1W, 1/10W; Temperature Coefficient: ±100ppm/°C; Supplier 1: Digi-Key; RoHS: RoHS Compliant; Category: Resistors; Stock 1: 236462; Pricing 1: 10=0.01, 50=0.008, 100=0.006, 250=0.00448, 500=0.00332, 1000=0.00221 (USD); Resistance (Ohms): 56K; Composition: Thick Film; Features: -; Tolerance: ±5%; Size / Dimension: 0.063" L x 0.031" W (1.60mm x 0.80mm); Height: 0.022" (0.55mm); Number of Terminations: 2; Packaging: Cut Tape (CT); Package / Case: 0603 (1608 Metric); ComponentLink1URL: http://www.yageo.com/documents/recent/PYu-RC0603_51_RoHS_L_4.pdf; ComponentLink1Description: http://www.yageo.com/documents/recent/PYu-RC0603_51_RoHS_L_4.pdf; Supplier Part Number 1: 311-56KGRCT-ND
footprint 0603 (Non polarized 0603 footprint)
pins: 1, 2

## RS - 100 0603
designator R?, comment 100
RES 100 OHM 1/10W 1% 0603 SMD; Supplier 1: Digi-Key; Supplier Part Number 1: RMCF0603FT100RCT-ND
footprint 0603 (Non polarized 0603 footprint)
pins: 1, 2

## RS - R36 1210
designator R?, comment R36
RES .36 OHM 1/2W 1% 1210 SMD; Manufacturer: Rohm Semiconductor; Manufacturer Part Number: MCR25JZHFLR360; Resistance (Ohms): 0.36; Power (Watts): 0.5W, 1/2W; Temperature Coefficient: ±200ppm/°C; RoHS: RoHS Compliant; Category: Resistors; Composition: Thick Film; Features: -; Tolerance: ±1%; Size / Dimension: 0.126" L x 0.098" W (3.20mm x 2.50mm); Height: 0.028" (0.70mm); Number of Terminations: 2; Packaging: Cut Tape (CT); Package / Case: 1210 (3225 Metric); ComponentLink1URL: http://www.rohm.com/products/databook/r/pdf/mcr25_ttk.pdf; ComponentLink1Description: http://www.rohm.com/products/databook/r/pdf/mcr25_ttk.pdf; Supplier 1: Digi-Key; Supplier Part Number 1: RHM.36SCT-ND
footprint 1210
pins: 1, 2

## RS - R68 1210
designator R?, comment R68
RES .68 OHM 1/2W 1% 1210 SMD; Manufacturer: Rohm Semiconductor; Manufacturer Part Number: MCR25JZHFLR680; Resistance (Ohms): 0.68; Power (Watts): 0.5W, 1/2W; Temperature Coefficient: ±200ppm/°C; RoHS: RoHS Compliant; Category: Resistors; Composition: Thick Film; Features: -; Tolerance: ±1%; Size / Dimension: 0.126" L x 0.098" W (3.20mm x 2.50mm); Height: 0.028" (0.70mm); Number of Terminations: 2; Packaging: Cut Tape (CT); Package / Case: 1210 (3225 Metric); ComponentLink1URL: http://www.rohm.com/products/databook/r/pdf/mcr25_ttk.pdf; ComponentLink1Description: http://www.rohm.com/products/databook/r/pdf/mcr25_ttk.pdf; Supplier 1: Digi-Key; Supplier Part Number 1: RHM.68SCT-ND
footprint 1210
pins: 1, 2

## X - 8MHz 18pF
designator Y?, comment 8MHz 18pF
CRYSTAL 8.0000 MHZ 18PF SMD; Manufacturer: Abracon Corporation; Manufacturer Part Number: ABM7-8.000MHZ-D-2-Y-T; Frequency Stability: ±30ppm; Frequency Tolerance: ±20ppm; Operating Mode: Fundamental; Supplier 1: Digi-Key; RoHS: RoHS Compliant; Category: Crystals and Oscillators; Stock 1: 25365; Pricing 1: 1=1.31, 10=1.138, 50=0.9976, 100=0.7875, 500=0.665 (USD); Type: MHz Crystal; Frequency: 8MHz; Load Capacitance: 18pF; Operating Temperature: -40°C ~ 85°C; Mounting Type: Surface Mount; Package / Case: 2-SMD; Size / Dimension: 0.236" L x 0.138" W (6.00mm x 3.50mm); Height: 0.055" (1.40mm); Packaging: Cut Tape (CT); ComponentLink1URL: http://www.abracon.com/Resonators/abm7.pdf; ComponentLink1Description: http://www.abracon.com/Resonators/abm7.pdf; Supplier Part Number 1: 535-9831-1-ND
footprint ABM7-8.000MHZ-D-2-Y-T (CRYSTAL 8.0000 MHZ 18PF SMD)
pins: 1, 2

## X - 36MHz 18pF
designator Y?, comment 36MHz 18pF
CRYSTAL 36.000 MHZ 18PF SMD; Manufacturer: TXC CORPORATION; Manufacturer Part Number: 7M-36.000MAAJ-T; Frequency Stability: ±30ppm; Operating Mode: Fundamental; Supplier 1: Digi-Key; RoHS: RoHS Compliant; Category: Crystals and Oscillators; Stock 1: 5817; Pricing 1: 1=1.31, 10=1.138, 50=0.9976, 100=0.7875, 500=0.665, 1000=0.525 (USD); Type: MHz Crystal; Frequency: 36MHz; Frequency Tolerance: ±30ppm; Load Capacitance: 18pF; Operating Temperature: -20°C ~ 70°C; Mounting Type: Surface Mount; Package / Case: 4-SMD, No Lead (DFN, LCC); Size / Dimension: 0.126" L x 0.098" W (3.20mm x 2.50mm); Height: 0.031" (0.80mm); Packaging: Cut Tape (CT); ComponentLink1URL: http://www.txccrystal.com/images/pdf/7m.pdf; ComponentLink1Description: http://www.txccrystal.com/images/pdf/7m.pdf; Supplier Part Number 1: 887-1137-1-ND
footprint 7M-36.000MAAJ-T (CRYSTAL 36.000 MHZ 18PF SMD)
pins: 1, 2, 3 GND